# Altium footprint library PCB_Display.PcbLib: 2 footprints
Each footprint in its own frame and in the unit in brackets; x right, y up, seen from the top. Pads: shape width x height; smd on the part's side, far side on the other; paste and mask are expansions set on the pad; w line width, h text height; cw(c..) or ccw(c..) is an arc to the next point about the centre after c.
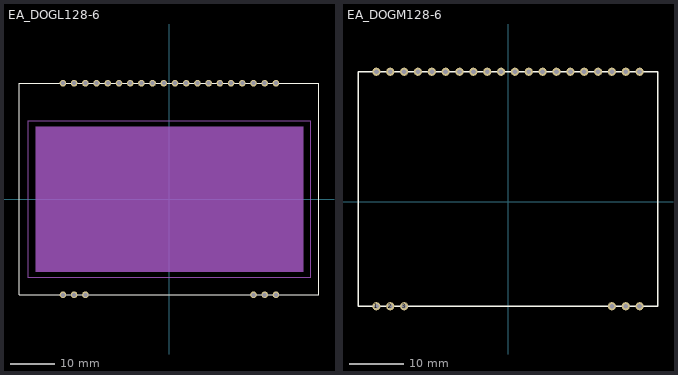
[diagram p0: the footprints below, top view; thin cyan lines are the x and y axes]

## EA_DOGL128-6 [mm] "Footprint del Display DOGL128-6"
height 2.8
pads (26):
  round 1.5 hole 0.9: 1(-24.13,-21.66) 2(-21.59,-21.66) 3(-19.05,-21.66) 18(19.05,-21.66) 19(21.59,-21.66) 20(24.13,-21.66) 21(24.13,26.3) 22(21.59,26.3) 23(19.05,26.3) 24(16.51,26.3) 25(13.97,26.3) 26(11.43,26.3) 27(8.89,26.3) 28(6.35,26.3) 29(3.81,26.3) 30(1.27,26.3) 31(-1.27,26.3) 32(-3.81,26.3) 33(-6.35,26.3) 34(-8.89,26.3) 35(-11.43,26.3) 36(-13.97,26.3) 37(-16.51,26.3) 38(-19.05,26.3) 39(-21.59,26.3) 40(-24.13,26.3)
Top Overlay:
  lines w0.254: -34.087,26.248 -34.087,-21.66 33.9,-21.66 33.9,26.3 -34.035,26.3
Mechanical 1:
  rectangle: -30.392,-16.472 30.392,16.472
  lines w0.254: -32,-17.75 -32,17.75 31.94,17.75 ; -31.94,-17.69 32,-17.69 32,17.81

## EA_DOGM128-6 [mm] "Footprint del Display DOGS128x6"
pads (26):
  round 1.5 hole 0.9: 1(-24.13,-19.2) 2(-21.59,-19.2) 3(-19.05,-19.2) 18(19.05,-19.2) 19(21.59,-19.2) 20(24.13,-19.2) 21(24.13,23.8) 22(21.59,23.8) 23(19.05,23.8) 24(16.51,23.8) 25(13.97,23.8) 26(11.43,23.8) 27(8.89,23.8) 28(6.35,23.8) 29(3.81,23.8) 30(1.27,23.8) 31(-1.27,23.8) 32(-3.81,23.8) 33(-6.35,23.8) 34(-8.89,23.8) 35(-11.43,23.8) 36(-13.97,23.8) 37(-16.51,23.8) 38(-19.05,23.8) 39(-21.59,23.8) 40(-24.13,23.8)
Top Overlay:
  lines w0.254: -27.5,-19.2 -27.5,23.8 27.5,23.8 27.5,-19.2 -27.5,-19.2